# EAGLE library part E30521 (library 7 Segment Anzeige 3 Digit)
Name des Bauteiles: -->7-Segmentanzeige-Modul 3 Digit Daten:weiß / gemeinsame Kathode, Anzeigehöhe: 13,2 mm, TOYO-LED: E30521-L-WH-0-WF Artikelnummer:#103035 Datenblatt:Siehe Hesch Suche ! __________________________________________ generated by Eagle Description Tool am : 06.10.2015 07:30:14 erstellt von: Hm
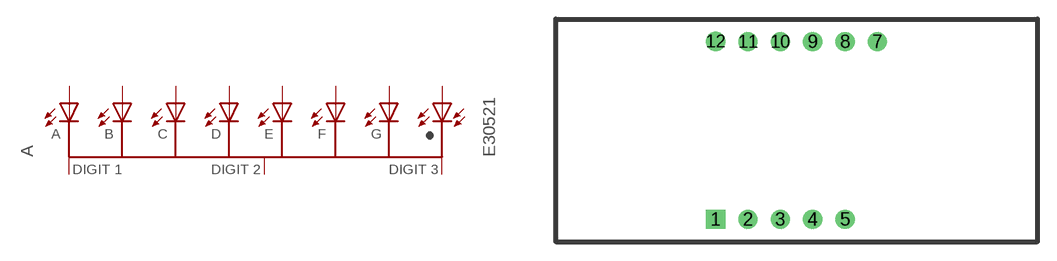
[diagram p0: symbol with the pads of 3_DIGIT; footprint 3_DIGIT]

Designator prefix A

## E30521-L-WH-0-WF (ARTNR: 103035)  [3_DIGIT]
1  E  pas
2  D  pas
3  .  pas
4  C  pas
5  G  pas
7  B  pas
8  DIGIT3
9  DIGIT2
10  F  pas
11  A  pas
12  DIGIT1

## Footprint 3_DIGIT (pad centres in mm)
drill 1 square: 1 0,0
drill 1: 2 2.54,0; 3 5.08,0; 4 7.62,0; 5 10.16,0; 7 12.7,13.97; 8 10.16,13.97; 9 7.62,13.97; 10 5.08,13.97; 11 2.54,13.97; 12 0,14